# Altium footprint library RELAYS.PcbLib: 3 footprints
Each footprint in its own frame and in the unit in brackets; x right, y up, seen from the top. Pads: shape width x height; smd on the part's side, far side on the other; paste and mask are expansions set on the pad; w line width, h text height; cw(c..) or ccw(c..) is an arc to the next point about the centre after c.
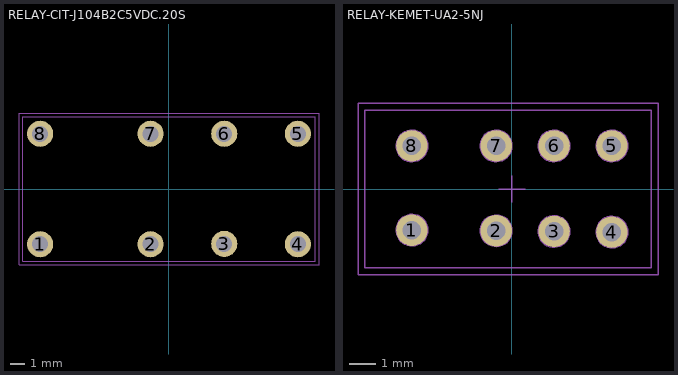
[diagram p0: the footprints below, top view; thin cyan lines are the x and y axes]

## RELAY-CIT-J104B2C5VDC.20S [mm]
pads (8):
  round 1.8 hole 1.1 unplated: 1(-8.89,-3.81) 2(-1.27,-3.81) 3(3.81,-3.785) 4(8.89,-3.81) 5(8.89,3.81) 6(3.81,3.81) 7(-1.27,3.81) 8(-8.89,3.81)
Top Courtyard:
  lines w0.05: -10.35,-5.225 10.35,-5.225 10.35,5.225 -10.35,5.225 -10.35,-5.225
Top Assembly:
  lines w0.05: -10.09,-4.975 10.09,-4.975 10.09,4.975 -10.09,4.975 -10.09,-4.975
3D body "J104B2C.stp": height 10.96, standoff -3.54, extent -10.09,-4.975 10.09,4.975

## RELAY-IXYS-LCA701S [mm]

## RELAY-KEMET-UA2-5NJ [mm]
pads (8):
  round 1.2 hole 0.7 unplated: 1(-3.8,-1.562) 2(-0.6,-1.587) 3(1.6,-1.612) 4(3.8,-1.637) 5(3.8,1.638) 6(1.6,1.638) 7(-0.6,1.638) 8(-3.8,1.638)
Top Courtyard:
  lines w0.05: -0.5,0 0,0 ; 0,-0.5 0,0 ; 0,0.5 0,0 ; 0.5,0 0,0 ; -5.85,-3.25 -5.85,3.25 5.55,3.25 5.55,-3.25 -5.85,-3.25
Top Assembly:
  circle w0.05: c-0.6,-1.587 r0.6
  circle w0.05: c-0.6,-1.587 r0.375
  circle w0.05: c1.6,-1.612 r0.6
  circle w0.05: c1.6,-1.612 r0.375
  circle w0.05: c3.8,-1.637 r0.6
  circle w0.05: c3.8,-1.637 r0.375
  circle w0.05: c3.8,1.638 r0.6
  circle w0.05: c3.8,1.638 r0.375
  circle w0.05: c1.6,1.638 r0.6
  circle w0.05: c1.6,1.638 r0.375
  circle w0.05: c-0.6,1.638 r0.6
  circle w0.05: c-0.6,1.638 r0.375
  circle w0.05: c-3.8,1.638 r0.6
  circle w0.05: c-3.8,1.638 r0.375
  circle w0.05: c-3.8,-1.562 r0.6
  circle w0.05: c-3.8,-1.562 r0.375
  lines w0.05: -5.6,-3 5.3,-3 5.3,3 -5.6,3 -5.6,-3
3D body "UA2-5NJ.stp": height 8.31, standoff -3.69, extent -5.6,-3 5.3,3